# EAGLE library part PF6N-* (library prolightopto)
RGB Power LED Butterfly Type Source: http://www.prolightopto.com/upload/3W_PF6N-3LFx_v4.3.pdf http://www.prolightopto.com/upload/DS-0104_9W_PF6N-9LFE_v2.5.pdf
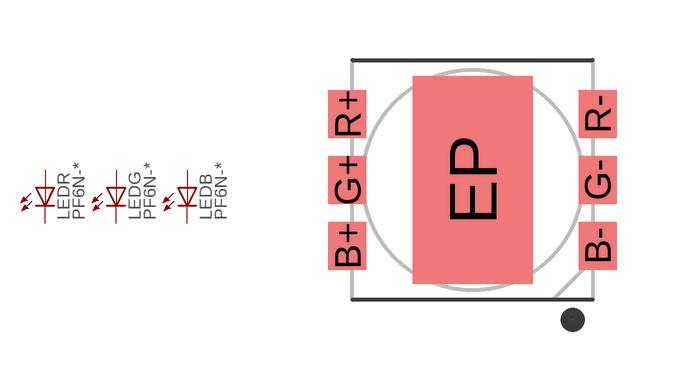
[diagram p2: symbol with the pads of PF6N; footprint PF6N]

Designator prefix LED; gates G=LED B=LED R=LED

## PF6N-3LFE, PF6N-9LFE  [PF6N]
B+  B:A  pas
B-  B:C  pas
G+  G:A  pas
G-  G:C  pas
R+  R:A  pas
R-  R:C  pas

## Footprint PF6N (pad centres in mm)
smd 0.95 x 1.2: B+ -3.125,-1.65; B- 3.125,-1.65; G+ -3.125,0; G- 3.125,0; R+ -3.125,1.65; R- 3.125,1.65
smd 3 x 5.2: EP 0,0